# EAGLE library part CD4052BCN (library Fairchild_By_element14_Batch_1)
Analog Multiplexer/Demultiplexer
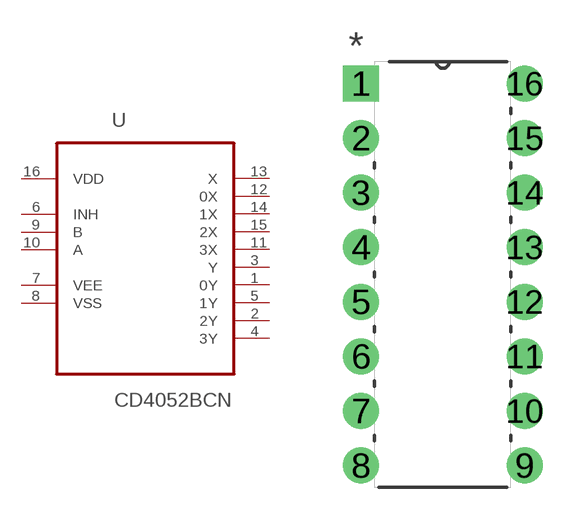
[diagram p164: symbol with the pads of DIP254P762X508-16; footprint DIP254P762X508-16]

Designator prefix U

## CD4052BCN (MPN: CD4052BCN; OC_FARNELL: 1014041; OC_NEWARK: 58K0158; PACKAGE: PDIP-16; SUPPLIER: Fairchild)  [DIP254P762X508-16]
1  0Y
2  2Y
3  Y
4  3Y
5  1Y
6  INH  pas
7  VEE  pwr
8  VSS  pwr
9  B  in
10  A  in
11  3X
12  0X
13  X
14  1X
15  2X
16  VDD  pwr

## Footprint DIP254P762X508-16 (pad centres in mm)
drill 1.118 square: 1 -7.62,17.78
drill 1.118: 2 -7.62,15.24; 3 -7.62,12.7; 4 -7.62,10.16; 5 -7.62,7.62; 6 -7.62,5.08; 7 -7.62,2.54; 8 -7.62,0; 9 0,0; 10 0,2.54; 11 0,5.08; 12 0,7.62; 13 0,10.16; 14 0,12.7; 15 0,15.24; 16 0,17.78